# Altium schematic symbol library bat-hld-2032.SchLib: 1 symbol
Pins are listed as number, name and electrical type; pins without a type are passive.

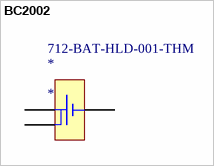
[diagram p0: symbol BC2002]

## BC2002
designator *  Supplier Part Number 1: 712-BAT-HLD-001-THM
Supplier 1: Mouser
footprint BATHLD-001 (LINX CR2032 BATTERY HOLDER)
pins: 1 -, 2 +, 3 +